# Altium schematic symbol library PC817X3NIP1B.SchLib: 1 symbol
Pins are listed as number, name and electrical type; pins without a type are passive.

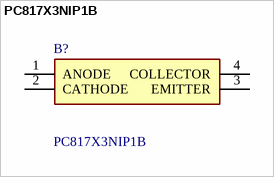
[diagram p0: symbol PC817X3NIP1B]

## PC817X3NIP1B
designator B?
Transistor Output Optocouplers OPTOISOLATOR 5KV TRANS SMD, Optoisolator Transistor Output 1 Channel; Manufacturer_Name: Sharp Microelectronics; Geometry.Height: 4.2mm; Manufacturer_Part_Number: PC817X3NIP1B; Mouser Part Number: 852-PC817X3NIP1B; Mouser Price/Stock: https://www.mouser.co.uk/ProductDetail/Sharp-Microelectronics/PC817X3NIP1B?qs=rrS6PyfT74f4G0G4E3ul%2FQ%3D%3D; Arrow Part Number: PC817X3NIP1B; Arrow Price/Stock: https://www.arrow.com/en/products/pc817x3nip1b/sharp.html?utm_currency=USD&region=europe; Datasheet Link: https://datasheet.datasheetarchive.com/originals/distributors/Datasheets_SAMA/6722695ec663e8d5f4c0406356e05a32.pdf
footprint SOP254P960X420-4N
pins: 1 ANODE, 2 CATHODE, 3 EMITTER, 4 COLLECTOR